# EAGLE library part HC-05 (library Bluetooth)
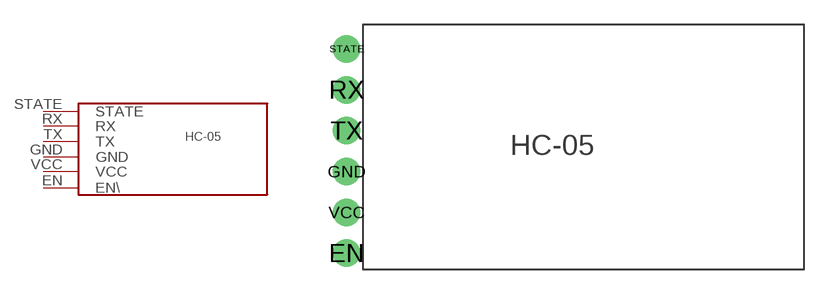
[diagram p0: symbol with the pads of HC-05; footprint HC-05]

Designator prefix -

## HC-05  [HC-05]
EN  EN\  nc
GND  GND  pwr
RX  RX
STATE  STATE  nc
TX  TX
VCC  VCC  pwr

## Footprint HC-05 (pad centres in mm)
drill 1 pad 1.676: EN -1,1; GND -1,6; RX -1,11; STATE -1,13.5; TX -1,8.5; VCC -1,3.5